# EAGLE library part ADUM1201 (library digital)
ADuM1400: 1+1 channel digital isolator (Analog Devices) +5V, 1Mbps
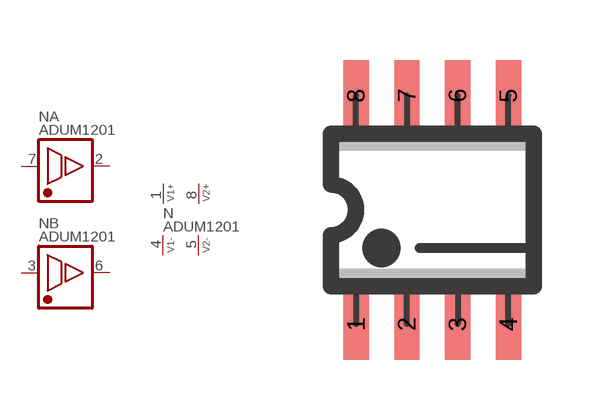
[diagram p53: symbol with the pads of SO08; footprint SO08]

Designator prefix N; gates A=ISO1 B=ISO1 P=V+--+-

## ADUM1201  [SO08]
1  P:V1+  pwr
2  A:OUT  out
3  B:IN  in
4  P:V1-  pwr
5  P:V2-  pwr
6  B:OUT  out
7  A:IN  in
8  P:V2+  pwr

## Footprint SO08 (pad centres in mm)
SO-8, SMD SOIC IC package, 8 pins
smd 0.635 x 1.778: 1 -1.905,-2.857; 2 -0.635,-2.857; 3 0.635,-2.857; 4 1.905,-2.857; 5 1.905,2.857; 6 0.635,2.857; 7 -0.635,2.857; 8 -1.905,2.857